# EAGLE library part LTC6802-1 (library icontroller)
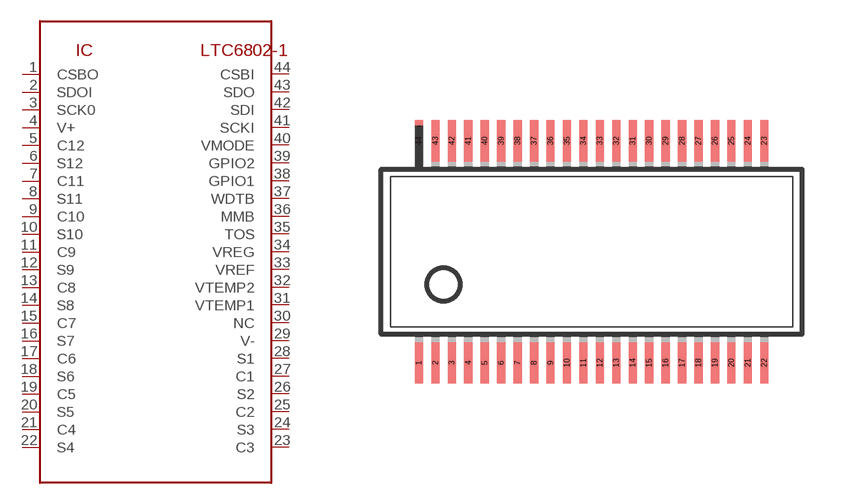
[diagram p4: symbol with the pads of SSOP44DL; footprint SSOP44DL]

Designator prefix IC

## LTC6802-1  [SSOP44DL]
1  CSBO
2  SDOI
3  SCK0
4  V+  pwr
5  C12
6  S12
7  C11
8  S11
9  C10
10  S10
11  C9
12  S9
13  C8
14  S8
15  C7
16  S7
17  C6
18  S6
19  C5
20  S5
21  C4
22  S4
23  C3
24  S3
25  C2
26  S2
27  C1
28  S1
29  V-  pwr
30  NC
31  VTEMP1
32  VTEMP2
33  VREF
34  VREG
35  TOS
36  MMB
37  WDTB
38  GPIO1
39  GPIO2
40  VMODE
41  SCKI
42  SDI
43  SDO
44  CSBI

## Footprint SSOP44DL (pad centres in mm)
Shrink Small Outline Package
smd 0.25 x 1.25: 1 -5.25,-3.375; 2 -4.75,-3.375; 3 -4.25,-3.375; 4 -3.75,-3.375; 5 -3.25,-3.375; 6 -2.75,-3.375; 7 -2.25,-3.375; 8 -1.75,-3.375; 9 -1.25,-3.375; 10 -0.75,-3.375; 11 -0.25,-3.375; 12 0.25,-3.375; 13 0.75,-3.375; 14 1.25,-3.375; 15 1.75,-3.375; 16 2.25,-3.375; 17 2.75,-3.375; 18 3.25,-3.375; 19 3.75,-3.375; 20 4.25,-3.375; 21 4.75,-3.375; 22 5.25,-3.375; 23 5.25,3.375; 24 4.75,3.375; 25 4.25,3.375; 26 3.75,3.375; 27 3.25,3.375; 28 2.75,3.375; 29 2.25,3.375; 30 1.75,3.375; 31 1.25,3.375; 32 0.75,3.375; 33 0.25,3.375; 34 -0.25,3.375; 35 -0.75,3.375; 36 -1.25,3.375; 37 -1.75,3.375; 38 -2.25,3.375; 39 -2.75,3.375; 40 -3.25,3.375; 41 -3.75,3.375; 42 -4.25,3.375; 43 -4.75,3.375; 44 -5.25,3.375